# Altium footprint library CRYSTAL_12MHZ.PcbLib: 1 footprints
Each footprint in its own frame and in the unit in brackets; x right, y up, seen from the top. Pads: shape width x height; smd on the part's side, far side on the other; paste and mask are expansions set on the pad; w line width, h text height; cw(c..) or ccw(c..) is an arc to the next point about the centre after c.
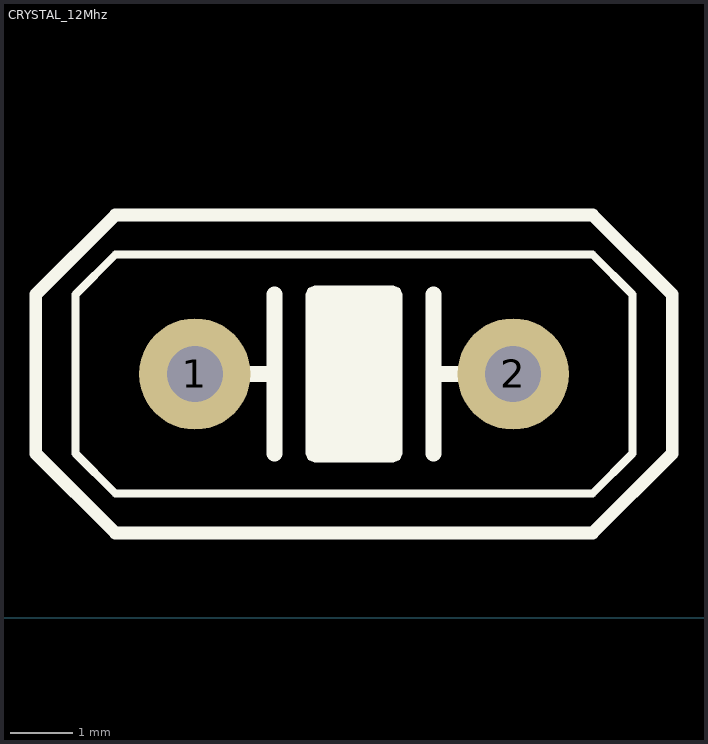
[diagram p0: the footprint, top view; thin cyan lines are the x and y axes]

## CRYSTAL_12Mhz [mil]
pads (2):
  round 70 / inner round 60 / far side round 70 hole 35 mask+8: 1(322.79,153.14) 2(522.79,153.14)
Top Overlay:
  region: 451.62,206.96 453.2,203.14 453.2,103.14 451.62,99.31 447.79,97.72 397.79,97.72 393.96,99.31 392.38,103.14 392.38,203.14 393.96,206.96 397.79,208.55 447.79,208.55
  lines w5: 247.79,103.14 247.79,203.14 272.79,228.14 572.79,228.14 597.79,203.14 597.79,103.14 572.79,78.14 272.79,78.14 247.79,103.14
  lines w8: 222.79,103.14 272.79,53.14 572.79,53.14 622.79,103.14 622.79,203.14 572.79,253.14 272.79,253.14 222.79,203.14 222.79,103.14
  lines w10: 322.79,153.14 372.79,153.14 ; 372.79,103.14 372.79,203.14 ; 472.79,103.14 472.79,203.14 ; 472.79,153.14 522.79,153.14